# Altium schematic symbol library VG039NCHXTB104.SchLib: 1 symbol
Pins are listed as number, name and electrical type; pins without a type are passive.

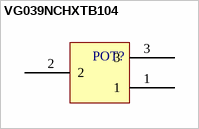
[diagram p0: symbol VG039NCHXTB104]

## VG039NCHXTB104
designator POT?  (value not drawn)
footprint VG039NCHXTB104
pins: 1, 2, 3